# Altium footprint library PDV-C173SM.PcbLib: 1 footprints
Each footprint in its own frame and in the unit in brackets; x right, y up, seen from the top. Pads: shape width x height; smd on the part's side, far side on the other; paste and mask are expansions set on the pad; w line width, h text height; cw(c..) or ccw(c..) is an arc to the next point about the centre after c.
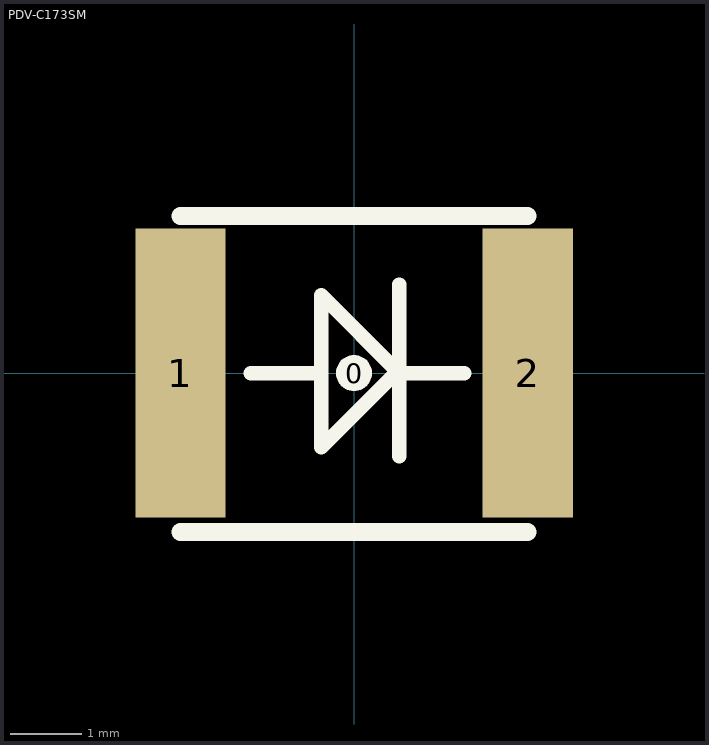
[diagram p0: the footprint, top view; thin cyan lines are the x and y axes]

## PDV-C173SM [mil] "Photodiode"
height 0.05
pads (3):
  round 20 on Top Overlay: 0(0,0)
  rect 50x160 smd: 1(-96,0) 2(96,0)
TopOverlay:
  lines w8: -57,0 -18,0 ; 25,-46 25,49 ; 25,2 -18,-41 -18,43 25,0 61,0
  lines w10: -96,-88 96,-88 ; -96,87 96,87
Mechanical4:
  text ".040" at -231,0 h1
3D body: height 43, standoff 0, extent -101,-93 101,92